# Altium footprint library Crystal.PcbLib: 180 footprints (part 12 of 12)
Each footprint in its own frame and in the unit in brackets; x right, y up, seen from the top. Pads: shape width x height; smd on the part's side, far side on the other; paste and mask are expansions set on the pad; w line width, h text height; cw(c..) or ccw(c..) is an arc to the next point about the centre after c.
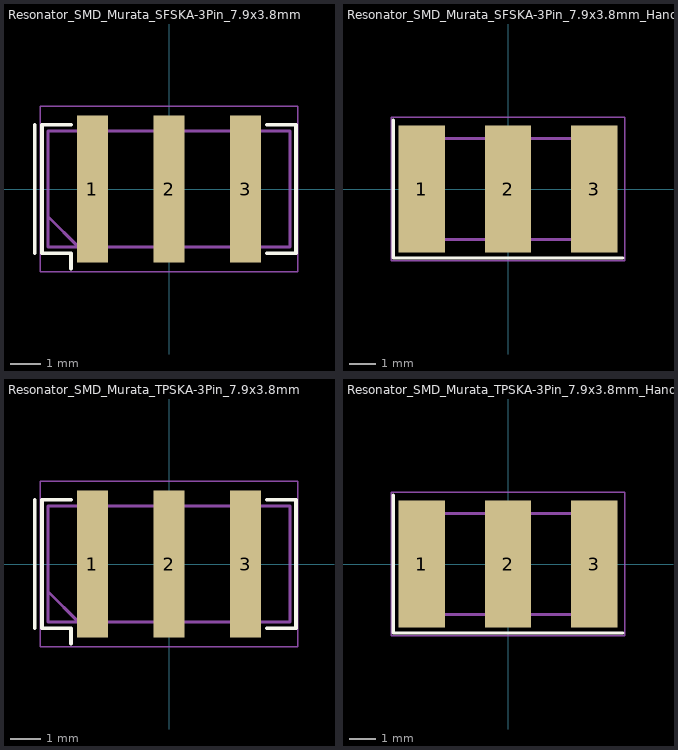
[diagram p11: the footprints below, top view; thin cyan lines are the x and y axes]

## Resonator_SMD_Murata_SFSKA-3Pin_7.9x3.8mm [mm]
pads (3):
  rect 1x4.8 smd: 1(-2.5,0) 2(0,0) 3(2.5,0)
F.SilkS:
  lines w0.12: -4.39,-2.1 -4.39,2.1 ; -3.2,-2.6 -3.2,-2.1 -4.15,-2.1 -4.15,2.1 -3.2,2.1 ; 3.2,-2.1 4.15,-2.1 4.15,2.1 3.2,2.1
F.CrtYd:
  lines w0.05: -4.2,-2.7 4.2,-2.7 4.2,2.7 -4.2,2.7 -4.2,-2.7
F.Fab:
  lines w0.1: -3.95,-0.9 -2.95,-1.9 ; -3.95,-1.9 3.95,-1.9 3.95,1.9 -3.95,1.9 -3.95,-1.9
  text "'.Designator'" at -4.047,-0.84 h1

## Resonator_SMD_Murata_SFSKA-3Pin_7.9x3.8mm_HandSoldering [mm]
pads (3):
  rect 1.75x4.8 smd: 1(-3.25,0) 2(0,0) 3(3.25,0)
F.SilkS:
  lines w0.12: -4.325,2.6 -4.325,-2.6 4.325,-2.6
F.CrtYd:
  lines w0.05: -4.4,-2.7 4.4,-2.7 4.4,2.7 -4.4,2.7 -4.4,-2.7
F.Fab:
  lines w0.1: -3.95,-0.9 -2.95,-1.9 ; -3.95,-1.9 -3.95,1.9 3.95,1.9 3.95,-1.9 -3.95,-1.9
  text "'.Designator'" at -4.047,-0.84 h1

## Resonator_SMD_Murata_TPSKA-3Pin_7.9x3.8mm [mm]
pads (3):
  rect 1x4.8 smd: 1(-2.5,0) 2(0,0) 3(2.5,0)
F.SilkS:
  lines w0.12: -4.39,-2.1 -4.39,2.1 ; -3.2,-2.6 -3.2,-2.1 -4.15,-2.1 -4.15,2.1 -3.2,2.1 ; 3.2,-2.1 4.15,-2.1 4.15,2.1 3.2,2.1
F.CrtYd:
  lines w0.05: -4.2,-2.7 4.2,-2.7 4.2,2.7 -4.2,2.7 -4.2,-2.7
F.Fab:
  lines w0.1: -3.95,-0.9 -2.95,-1.9 ; -3.95,-1.9 -3.95,1.9 3.95,1.9 3.95,-1.9 -3.95,-1.9
  text "'.Designator'" at -4.047,-0.84 h1

## Resonator_SMD_Murata_TPSKA-3Pin_7.9x3.8mm_HandSoldering [mm]
pads (3):
  rect 1.75x4.8 smd: 1(-3.25,0) 2(0,0) 3(3.25,0)
F.SilkS:
  lines w0.12: -4.325,2.6 -4.325,-2.6 4.325,-2.6
F.CrtYd:
  lines w0.05: -4.4,-2.7 4.4,-2.7 4.4,2.7 -4.4,2.7 -4.4,-2.7
F.Fab:
  lines w0.1: -3.95,-0.9 -2.95,-1.9 ; -3.95,-1.9 3.95,-1.9 3.95,1.9 -3.95,1.9 -3.95,-1.9
  text "'.Designator'" at -4.047,-0.84 h1